# Altium footprint library HM73-152R2LFTR13.PcbLib: 1 footprints
Each footprint in its own frame and in the unit in brackets; x right, y up, seen from the top. Pads: shape width x height; smd on the part's side, far side on the other; paste and mask are expansions set on the pad; w line width, h text height; cw(c..) or ccw(c..) is an arc to the next point about the centre after c.
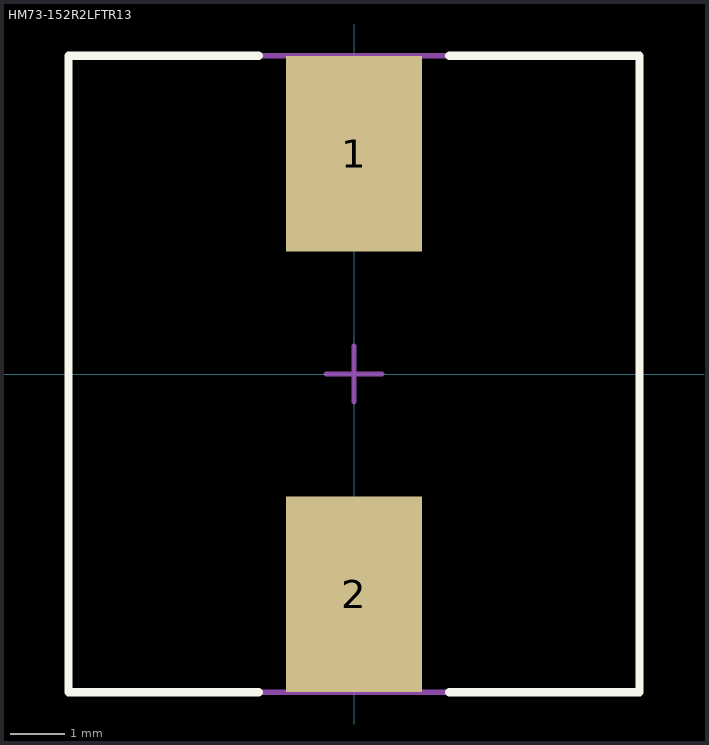
[diagram p0: the footprint, top view; thin cyan lines are the x and y axes]

## HM73-152R2LFTR13 [mm]
pads (2):
  rect 2.5x3.6 smd: 1(0,4.05) 2(0,-4.05)
Top Overlay:
  lines w0.152: -1.75,-5.85 -5.25,-5.85 -5.25,5.85 -1.75,5.85 ; 1.75,-5.85 5.25,-5.85 5.25,5.85 1.75,5.85
Mechanical 13:
  lines w0.1: -5.25,-5.85 5.25,-5.85 5.25,5.85 -5.25,5.85 -5.25,-5.85
Mechanical 15:
  lines w0.1: -0.508,0 0,0 ; 0,-0.508 0,0 ; 0,0.508 0,0 ; 0.508,0 0,0
3D body: height 5.5, standoff 0, extent -5.25,-5.85 5.25,5.85